# Altium footprint library C_TANT_D(7343).PcbLib: 1 footprints
Each footprint in its own frame and in the unit in brackets; x right, y up, seen from the top. Pads: shape width x height; smd on the part's side, far side on the other; paste and mask are expansions set on the pad; w line width, h text height; cw(c..) or ccw(c..) is an arc to the next point about the centre after c.
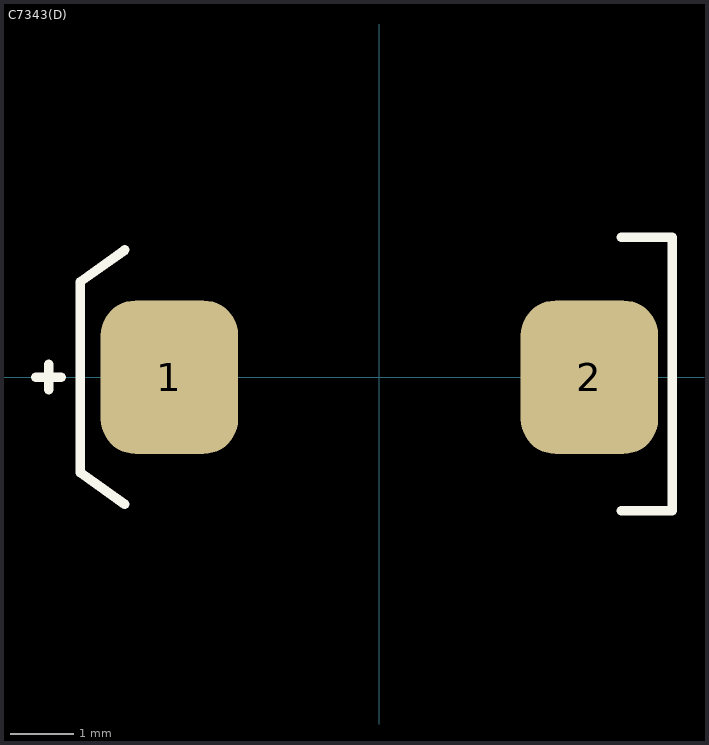
[diagram p0: the footprint, top view; thin cyan lines are the x and y axes]

## C7343(D) [mm]
pads (2):
  rrect50% 2.16x2.41 smd: 1(-3.3,0) 2(3.3,0)
Top Overlay:
  lines w0.15: -5.4,0 -5,0 ; -5.2,-0.2 -5.2,0.2 ; -4,-2 -4.7,-1.5 -4.7,1.5 -4,2 ; 3.8,-2.1 4.6,-2.1 4.6,2.2 3.8,2.2
3D body "TANTALUM_D.STEP": height 2.91, standoff 0, extent -3.67,-2.15 3.67,2.15